# Altium footprint library WLCSP64N0.50P8X8_4.4X4.5X0.6-64_64.PcbLib: 1 footprints
Each footprint in its own frame and in the unit in brackets; x right, y up, seen from the top. Pads: shape width x height; smd on the part's side, far side on the other; paste and mask are expansions set on the pad; w line width, h text height; cw(c..) or ccw(c..) is an arc to the next point about the centre after c.
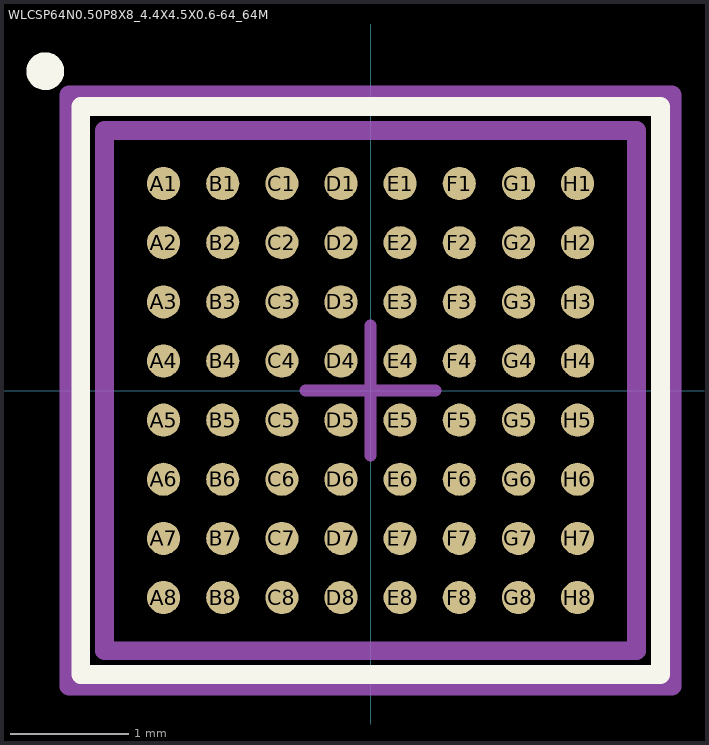
[diagram p0: the footprint, top view; thin cyan lines are the x and y axes]

## WLCSP64N0.50P8X8_4.4X4.5X0.6-64_64M [mm] "WLCSP 64 4.5x4.4x0.6 P 0.5 mm"
height 0.6
pads (64):
  round 0.28 smd: A1(-1.75,1.75) A2(-1.75,1.25) A3(-1.75,0.75) A4(-1.75,0.25) A5(-1.75,-0.25) A6(-1.75,-0.75) A7(-1.75,-1.25) A8(-1.75,-1.75) B1(-1.25,1.75) B2(-1.25,1.25) B3(-1.25,0.75) B4(-1.25,0.25) B5(-1.25,-0.25) B6(-1.25,-0.75) B7(-1.25,-1.25) B8(-1.25,-1.75) C1(-0.75,1.75) C2(-0.75,1.25) C3(-0.75,0.75) C4(-0.75,0.25) C5(-0.75,-0.25) C6(-0.75,-0.75) C7(-0.75,-1.25) C8(-0.75,-1.75) D1(-0.25,1.75) D2(-0.25,1.25) D3(-0.25,0.75) D4(-0.25,0.25) D5(-0.25,-0.25) D6(-0.25,-0.75) D7(-0.25,-1.25) D8(-0.25,-1.75) E1(0.25,1.75) E2(0.25,1.25) E3(0.25,0.75) E4(0.25,0.25) E5(0.25,-0.25) E6(0.25,-0.75) E7(0.25,-1.25) E8(0.25,-1.75) F1(0.75,1.75) F2(0.75,1.25) F3(0.75,0.75) F4(0.75,0.25) F5(0.75,-0.25) F6(0.75,-0.75) F7(0.75,-1.25) F8(0.75,-1.75) G1(1.25,1.75) G2(1.25,1.25) G3(1.25,0.75) G4(1.25,0.25) G5(1.25,-0.25) G6(1.25,-0.75) G7(1.25,-1.25) G8(1.25,-1.75) H1(1.75,1.75) H2(1.75,1.25) H3(1.75,0.75) H4(1.75,0.25) H5(1.75,-0.25) H6(1.75,-0.75) H7(1.75,-1.25) H8(1.75,-1.75)
Top Overlay:
  circle w0.16: c-2.75,2.7 r0.08
  lines w0.16: -2.45,-2.4 2.45,-2.4 2.45,2.4 -2.45,2.4 -2.45,-2.4
Top Component Center:
  lines w0.1: -0.55,0 0.55,0 ; 0,-0.55 0,0.55
Top Courtyard:
  lines w0.16: -2.55,-2.5 2.55,-2.5 2.55,2.5 -2.55,2.5 -2.55,-2.5
Top Assembly:
  lines w0.16: -2.25,-2.2 2.25,-2.2 2.25,2.2 -2.25,2.2 -2.25,-2.2
3D body "WLCSP64N0.50P8X8_4.4X4.5X0.6-64_64M.STEP": height 0.6, standoff 0, extent -2.25,-2.2 2.25,2.2